# Altium footprint library PcbLib1.PcbLib: 29 footprints (part 1 of 2)
Each footprint in its own frame and in the unit in brackets; x right, y up, seen from the top. Pads: shape width x height; smd on the part's side, far side on the other; paste and mask are expansions set on the pad; w line width, h text height; cw(c..) or ccw(c..) is an arc to the next point about the centre after c.
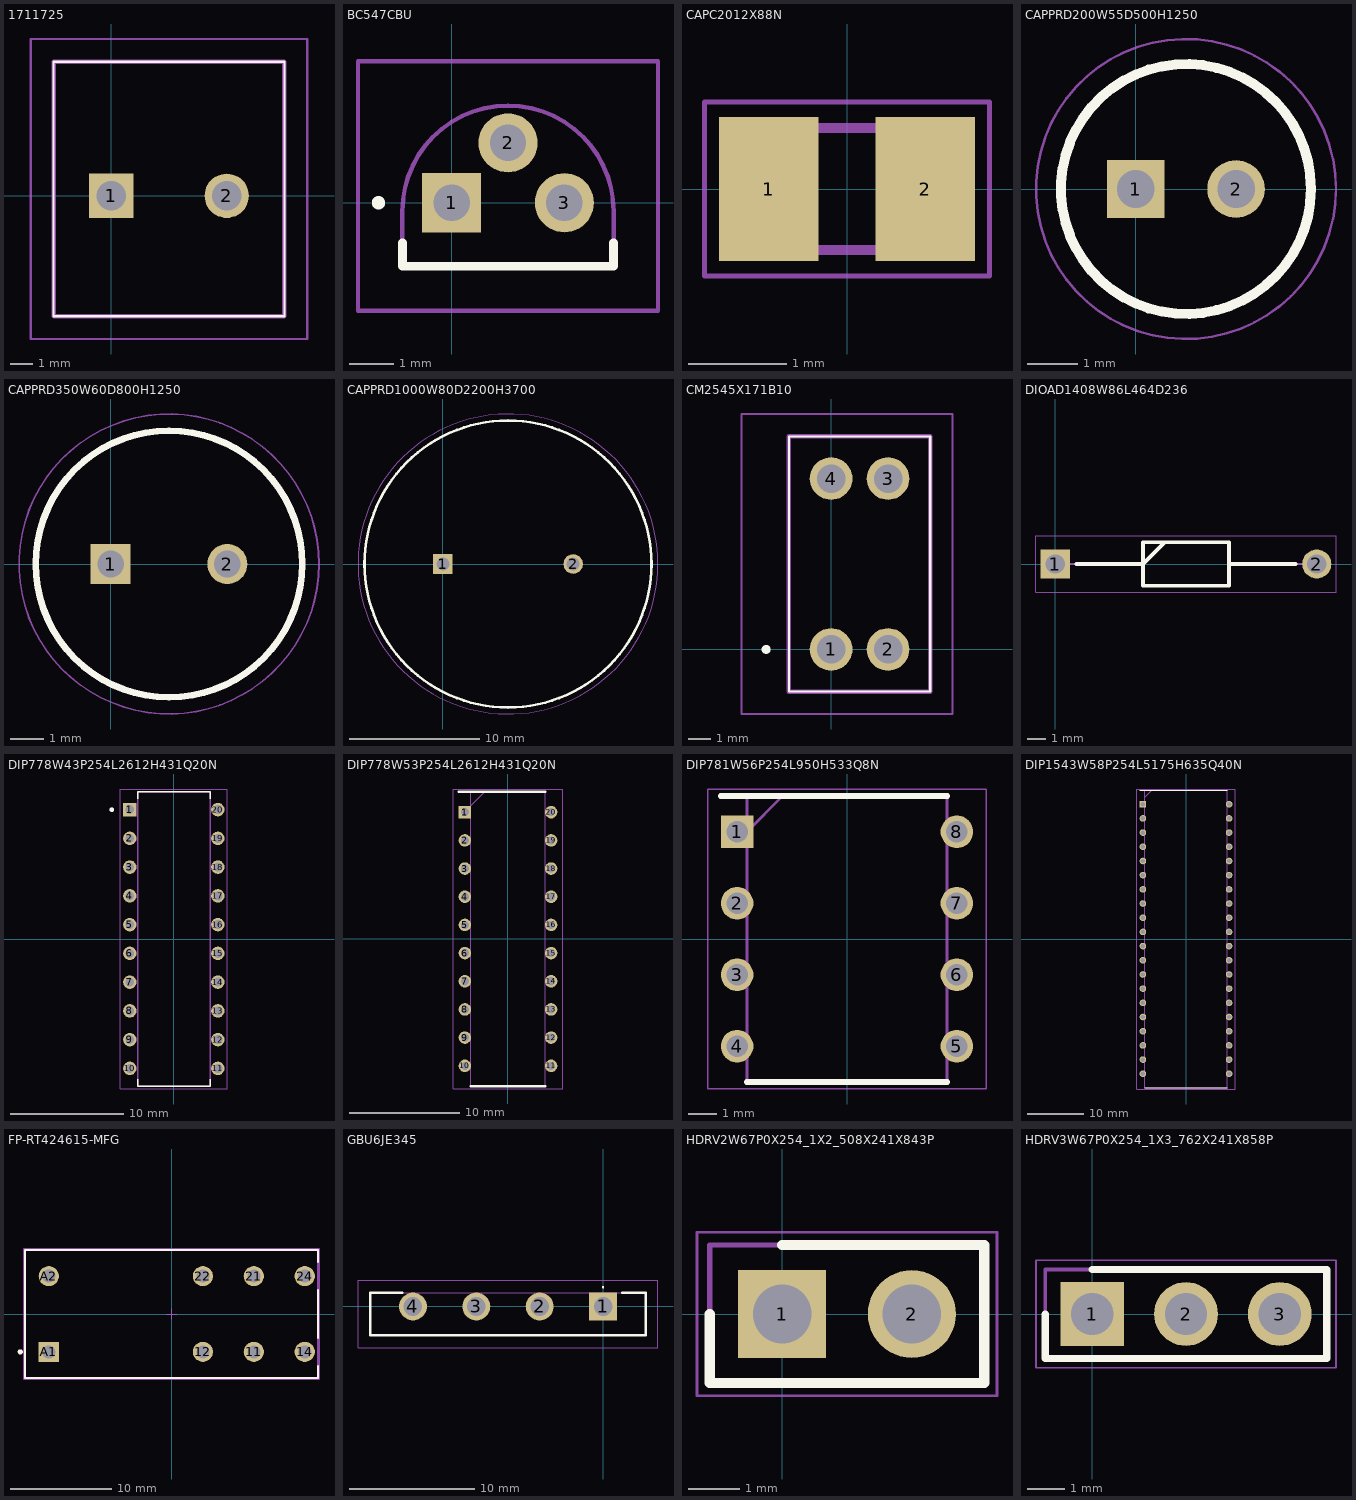
[diagram p0: the footprints below, top view; thin cyan lines are the x and y axes]

## 1711725 [mm]
pads (2):
  rect 1.95x1.95 hole 1.3: 1(0,0)
  round 1.95 hole 1.3: 2(5.08,0)
Top Overlay:
  lines w0.1: -2.54,-5.3 -2.54,5.9 7.62,5.9 7.62,-5.3 -2.54,-5.3
Mechanical 13:
  lines w0.2: -2.54,-5.3 -2.54,5.9 7.62,5.9 7.62,-5.3 -2.54,-5.3
Mechanical 15:
  lines w0.1: -3.54,-6.3 -3.54,6.9 8.62,6.9 8.62,-6.3 -3.54,-6.3
3D body "1711725.stp": height 18.41, standoff -4.89, extent -3.12,-5.3 7.61,5.9

## BC547CBU [mm]
pads (3):
  rect 1.333x1.333 hole 0.82: 1(0,0)
  round 1.333 hole 0.82: 2(1.27,1.35) 3(2.54,0)
Top Overlay:
  lines w0.2: -1.11,-0.9 -1.11,-1.43 3.65,-1.43 3.65,-0.9 ; -1.7,0 ccw(c-1.65,0) -1.6,0 ; -1.7,0 cw(c-1.65,0) -1.6,0 ; -1.7,0 ccw(c-1.65,0) -1.6,0
Mechanical 13:
  lines w0.1: -1.11,-1.43 1.27,-1.43 3.65,-1.43 3.65,-0.19 ccw(c1.27,-0.19) -1.11,-0.19 -1.11,-1.43
Mechanical 15:
  lines w0.1: -2.11,-2.43 4.65,-2.43 4.65,3.19 -2.11,3.19 -2.11,-2.43
3D body "BC547CBU.stp": height 5.43, standoff -5, extent -1.11,-1.43 3.65,2.19

## CAPC2012X88N [mm]
pads (2):
  rect 1.02x1.47 smd: 1(-0.8,0) 2(0.8,0)
Mechanical 13:
  lines w0.1: -1,-0.625 1,-0.625 1,0.625 -1,0.625 -1,-0.625
Mechanical 15:
  lines w0.05: -1.46,-0.89 1.46,-0.89 1.46,0.89 -1.46,0.89 -1.46,-0.89
3D body "C0805C104K5RAC7411.stp": height 0.88, standoff 0, extent -1,-0.625 1,0.625

## CAPPRD200W55D500H1250 [mm]
pads (2):
  rect 1.15x1.15 hole 0.75: 1(0,0)
  round 1.15 hole 0.75: 2(2,0)
Top Overlay:
  circle w0.2: c1,0 r2.5
Mechanical 13:
  circle w0.1: c1,0 r2.5
Mechanical 15:
  circle w0.05: c1,0 r3
3D body "EEU-FR1H100.stp": height 12.5, standoff -10, extent -1.75,-2.75 3.75,2.75

## CAPPRD350W60D800H1250 [mm]
pads (2):
  rect 1.2x1.2 hole 0.8: 1(0,0)
  round 1.2 hole 0.8: 2(3.5,0)
Top Overlay:
  circle w0.2: c1.75,0 r4
Mechanical 13:
  circle w0.1: c1.75,0 r4
Mechanical 15:
  circle w0.05: c1.75,0 r4.5
3D body "ESK107M050AG3EA.stp": height 12.5, standoff -10, extent -2.5,-4.25 6,4.25

## CAPPRD1000W80D2200H3700 [mm]
pads (2):
  rect 1.5x1.5 hole 1: 1(0,0)
  round 1.5 hole 1: 2(10,0)
Top Overlay:
  circle w0.2: c5,0 r11
Mechanical 13:
  circle w0.1: c5,0 r11
Mechanical 15:
  circle w0.05: c5,0 r11.5
3D body "ESK478M050AQ3AA.stp": height 37, standoff -10, extent -6.25,-11.25 16.25,11.25

## CM2545X171B10 [mm]
pads (4):
  round 1.905 hole 1.27: 1(0,0) 2(2.54,0) 3(2.54,7.62) 4(0,7.62)
Top Overlay:
  lines w0.1: -1.88,-1.88 4.42,-1.88 4.42,9.5 -1.88,9.5 -1.88,-1.88
  lines w0.2: -3,0 ccw(c-2.9,0) -2.8,0 ccw(c-2.9,0) -3,0
Mechanical 13:
  lines w0.2: -1.88,-1.88 4.42,-1.88 4.42,9.5 -1.88,9.5 -1.88,-1.88
Mechanical 15:
  lines w0.1: -4,-2.88 5.42,-2.88 5.42,10.5 -4,10.5 -4,-2.88
3D body "CM2545X171B-10.stp": height 9.6, standoff -5, extent -1.88,-1.88 4.42,9.5

## DIOAD1408W86L464D236 [mm]
pads (2):
  rect 1.575x1.575 hole 1.05: 1(0,0)
  round 1.575 hole 1.05: 2(14.1,0)
Top Overlay:
  lines w0.2: 1.138,0 4.732,0 5.912,1.18 ; 9.368,0 12.962,0 ; 4.732,-1.18 4.732,1.18 9.368,1.18 9.368,-1.18 4.732,-1.18
Mechanical 13:
  lines w0.1: 0,0 4.732,0 5.912,1.18 ; 9.368,0 14.1,0 ; 4.732,-1.18 4.732,1.18 9.367,1.18 9.367,-1.18 4.732,-1.18
Mechanical 15:
  lines w0.05: -1.038,-1.53 -1.038,1.53 15.137,1.53 15.137,-1.53 -1.038,-1.53
3D body "1N4007G-T.stp": height 2.71, standoff -2.72, extent -0.429,-1.357 14.507,1.357

## DIP778W43P254L2612H431Q20N [mm]
pads (20):
  rect 1.19x1.19 hole 0.79: 1(-3.89,11.43)
  round 1.19 hole 0.79: 2(-3.89,8.89) 3(-3.89,6.35) 4(-3.89,3.81) 5(-3.89,1.27) 6(-3.89,-1.27) 7(-3.89,-3.81) 8(-3.89,-6.35) 9(-3.89,-8.89) 10(-3.89,-11.43) 11(3.89,-11.43) 12(3.89,-8.89) 13(3.89,-6.35) 14(3.89,-3.81) 15(3.89,-1.27) 16(3.89,1.27) 17(3.89,3.81) 18(3.89,6.35) 19(3.89,8.89) 20(3.89,11.43)
Top Overlay:
  circle w0.2: c-5.485,11.43 r0.1
  lines w0.127: -3.2,-12.375 -3.2,-13 3.2,-13 3.2,-12.375 ; -3.2,12.375 -3.2,13 3.2,13 3.2,12.375
Mechanical 13:
  circle w0.2: c-5.485,11.43 r0.1
  lines w0.127: -3.2,-13 3.2,-13 3.2,13 -3.2,13 -3.2,-13
Mechanical 15:
  lines w0.05: -4.735,-13.25 -4.735,13.25 4.735,13.25 4.735,-13.25 -4.735,-13.25
3D body "step_temp.STEP": height 4.31, standoff -3.6, extent -4.03,-13 4.03,13

## DIP778W53P254L2612H431Q20N [mm]
pads (20):
  rect 1.13x1.13 hole 0.73: 1(-3.892,11.43)
  round 1.13 hole 0.73: 2(-3.892,8.89) 3(-3.892,6.35) 4(-3.892,3.81) 5(-3.892,1.27) 6(-3.892,-1.27) 7(-3.892,-3.81) 8(-3.892,-6.35) 9(-3.892,-8.89) 10(-3.892,-11.43) 11(3.892,-11.43) 12(3.892,-8.89) 13(3.892,-6.35) 14(3.892,-3.81) 15(3.892,-1.27) 16(3.892,1.27) 17(3.892,3.81) 18(3.892,6.35) 19(3.892,8.89) 20(3.892,11.43)
Top Overlay:
  lines w0.2: -4.458,13.27 3.375,13.27 ; -3.375,-13.27 3.375,-13.27
Mechanical 13:
  lines w0.1: -3.375,12 -2.105,13.27 ; -3.375,-13.27 3.375,-13.27 3.375,13.27 -3.375,13.27 -3.375,-13.27
Mechanical 15:
  lines w0.05: -4.94,-13.52 4.94,-13.52 4.94,13.52 -4.94,13.52 -4.94,-13.52
3D body "TM1637.stp": height 4.31, standoff -3.5, extent -4.025,-13.06 4.025,13.06

## DIP781W56P254L950H533Q8N [mm]
pads (8):
  rect 1.158x1.158 hole 0.758: 1(-3.905,3.81)
  round 1.158 hole 0.758: 2(-3.905,1.27) 3(-3.905,-1.27) 4(-3.905,-3.81) 5(3.905,-3.81) 6(3.905,-1.27) 7(3.905,1.27) 8(3.905,3.81)
Top Overlay:
  lines w0.2: -4.484,5.08 3.556,5.08 ; -3.556,-5.08 3.556,-5.08
Mechanical 13:
  lines w0.1: -3.556,3.81 -2.286,5.08 ; -3.556,-5.08 3.556,-5.08 3.556,5.08 -3.556,5.08 -3.556,-5.08
Mechanical 15:
  lines w0.05: -4.956,-5.33 4.956,-5.33 4.956,5.33 -4.956,5.33 -4.956,-5.33
3D body "MCP6002-E_P.stp": height 5.33, standoff -3.5, extent -4.045,-4.75 4.045,4.75

## DIP1543W58P254L5175H635Q40N [mm]
pads (40):
  rect 1.184x1.184 hole 0.784: 1(-7.715,24.13)
  round 1.184 hole 0.784: 2(-7.715,21.59) 3(-7.715,19.05) 4(-7.715,16.51) 5(-7.715,13.97) 6(-7.715,11.43) 7(-7.715,8.89) 8(-7.715,6.35) 9(-7.715,3.81) 10(-7.715,1.27) 11(-7.715,-1.27) 12(-7.715,-3.81) 13(-7.715,-6.35) 14(-7.715,-8.89) 15(-7.715,-11.43) 16(-7.715,-13.97) 17(-7.715,-16.51) 18(-7.715,-19.05) 19(-7.715,-21.59) 20(-7.715,-24.13) 21(7.715,-24.13) 22(7.715,-21.59) 23(7.715,-19.05) 24(7.715,-16.51) 25(7.715,-13.97) 26(7.715,-11.43) 27(7.715,-8.89) 28(7.715,-6.35) 29(7.715,-3.81) 30(7.715,-1.27) 31(7.715,1.27) 32(7.715,3.81) 33(7.715,6.35) 34(7.715,8.89) 35(7.715,11.43) 36(7.715,13.97) 37(7.715,16.51) 38(7.715,19.05) 39(7.715,21.59) 40(7.715,24.13)
Top Overlay:
  lines w0.2: -8.307,26.606 7.366,26.606 ; -7.366,-26.606 7.366,-26.606
Mechanical 13:
  lines w0.1: -7.366,25.336 -6.096,26.606 ; -7.366,-26.606 7.366,-26.606 7.366,26.606 -7.366,26.606 -7.366,-26.606
Mechanical 15:
  lines w0.05: -8.78,-26.856 8.78,-26.856 8.78,26.856 -8.78,26.856 -8.78,-26.856
3D body "ATMEGA4809-PF.stp": height 6.35, standoff -3.5, extent -7.861,-25.876 7.861,25.876

## FP-RT424615-MFG [mm]
pads (8):
  round 2 hole 1.3 paste-1000 mask+0: 11(8.15,-3.75) 12(3.11,-3.75) 14(13.19,-3.75) 21(8.15,3.75) 22(3.11,3.75) 24(13.19,3.75) A2(-12.15,3.75)
  rect 2x2 hole 1.3 paste-1000 mask+0: A1(-12.15,-3.75)
Top Overlay:
  circle w0.25: c-14.975,-3.75 r0.125
  lines w0.2: 14.5,-5.125 14.5,-6.35 -14.5,-6.35 -14.5,6.35 14.5,6.35 14.5,5.125 ; 14.5,-2.375 14.5,2.375
Top 3D Body:
  lines w0.2: -14.5,-6.35 -14.5,6.35 14.5,6.35 14.5,-6.35 -14.5,-6.35
Top Courtyard:
  lines w0.2: -14.6,-6.45 -14.6,6.45 14.6,6.45 14.6,-6.45 -14.6,-6.45
Top Assembly:
  lines w0.2: -14.6,-6.45 -14.6,6.45 14.6,6.45 14.6,-6.45 -14.6,-6.45
  text ".Designator" at 0,0.188 h1
Top Component Center:
  lines w0.1: -0.5,0 0.5,0 ; 0,-0.5 0,0.5
3D body "Relay_TE_Connectivity_RT424615_eec.STEP": height 0.25, standoff 0, extent -14.6,-6.45 14.6,6.45

## GBU6JE345 [mm]
pads (4):
  rect 2.235x2.235 hole 1.49: 1(0,0)
  round 2.235 hole 1.49: 2(-5.08,0) 3(-10.16,0) 4(-15.24,0)
Top Overlay:
  lines w0.1: 0,1.5 ccw(c0,1.55) 0,1.6 ccw(c0,1.55) 0,1.5
  lines w0.2: -16.08,1.108 -18.645,1.108 -18.645,-2.322 3.405,-2.322 3.405,1.108 1.52,1.108
Mechanical 13:
  lines w0.1: -18.645,-2.322 -18.645,1.108 3.405,1.108 3.405,-2.322 -18.645,-2.322
Mechanical 15:
  lines w0.1: -19.645,-3.322 -19.645,2.117 4.405,2.117 4.405,-3.322 -19.645,-3.322
3D body "GBU6J-E3_45.stp": height 18.9, standoff -5, extent -18.645,-2.322 3.405,1.108

## HDRV2W67P0X254_1X2_508X241X843P [mm]
pads (2):
  rect 1.725x1.725 hole 1.15: 1(0,0)
  round 1.725 hole 1.15: 2(2.54,0)
Top Overlay:
  lines w0.2: -1.42,0 -1.42,-1.355 3.96,-1.355 3.96,1.355 0,1.355
Mechanical 13:
  lines w0.1: -1.42,-1.355 3.96,-1.355 3.96,1.355 -1.42,1.355 -1.42,-1.355
Mechanical 15:
  lines w0.05: -1.67,-1.605 4.21,-1.605 4.21,1.605 -1.67,1.605 -1.67,-1.605
3D body "10129378-902001BLF.stp": height 8.43, standoff -3.3, extent -1.27,-1.205 3.81,1.205

## HDRV3W67P0X254_1X3_762X241X858P [mm]
pads (3):
  rect 1.725x1.725 hole 1.15: 1(0,0)
  round 1.725 hole 1.15: 2(2.54,0) 3(5.08,0)
Top Overlay:
  lines w0.2: -1.27,0 -1.27,-1.205 6.35,-1.205 6.35,1.205 0,1.205
Mechanical 13:
  lines w0.1: -1.27,-1.205 6.35,-1.205 6.35,1.205 -1.27,1.205 -1.27,-1.205
Mechanical 15:
  lines w0.05: -1.52,-1.455 6.6,-1.455 6.6,1.455 -1.52,1.455 -1.52,-1.455
3D body "10129378-903001BLF.stp": height 8.58, standoff -3.3, extent -1.27,-1.205 6.35,1.205